# Altium footprint library BASIC Library.PCBLIB: 464 footprints (part 12 of 30)
Each footprint in its own frame and in the unit in brackets; x right, y up, seen from the top. Pads: shape width x height; smd on the part's side, far side on the other; paste and mask are expansions set on the pad; w line width, h text height; cw(c..) or ccw(c..) is an arc to the next point about the centre after c.
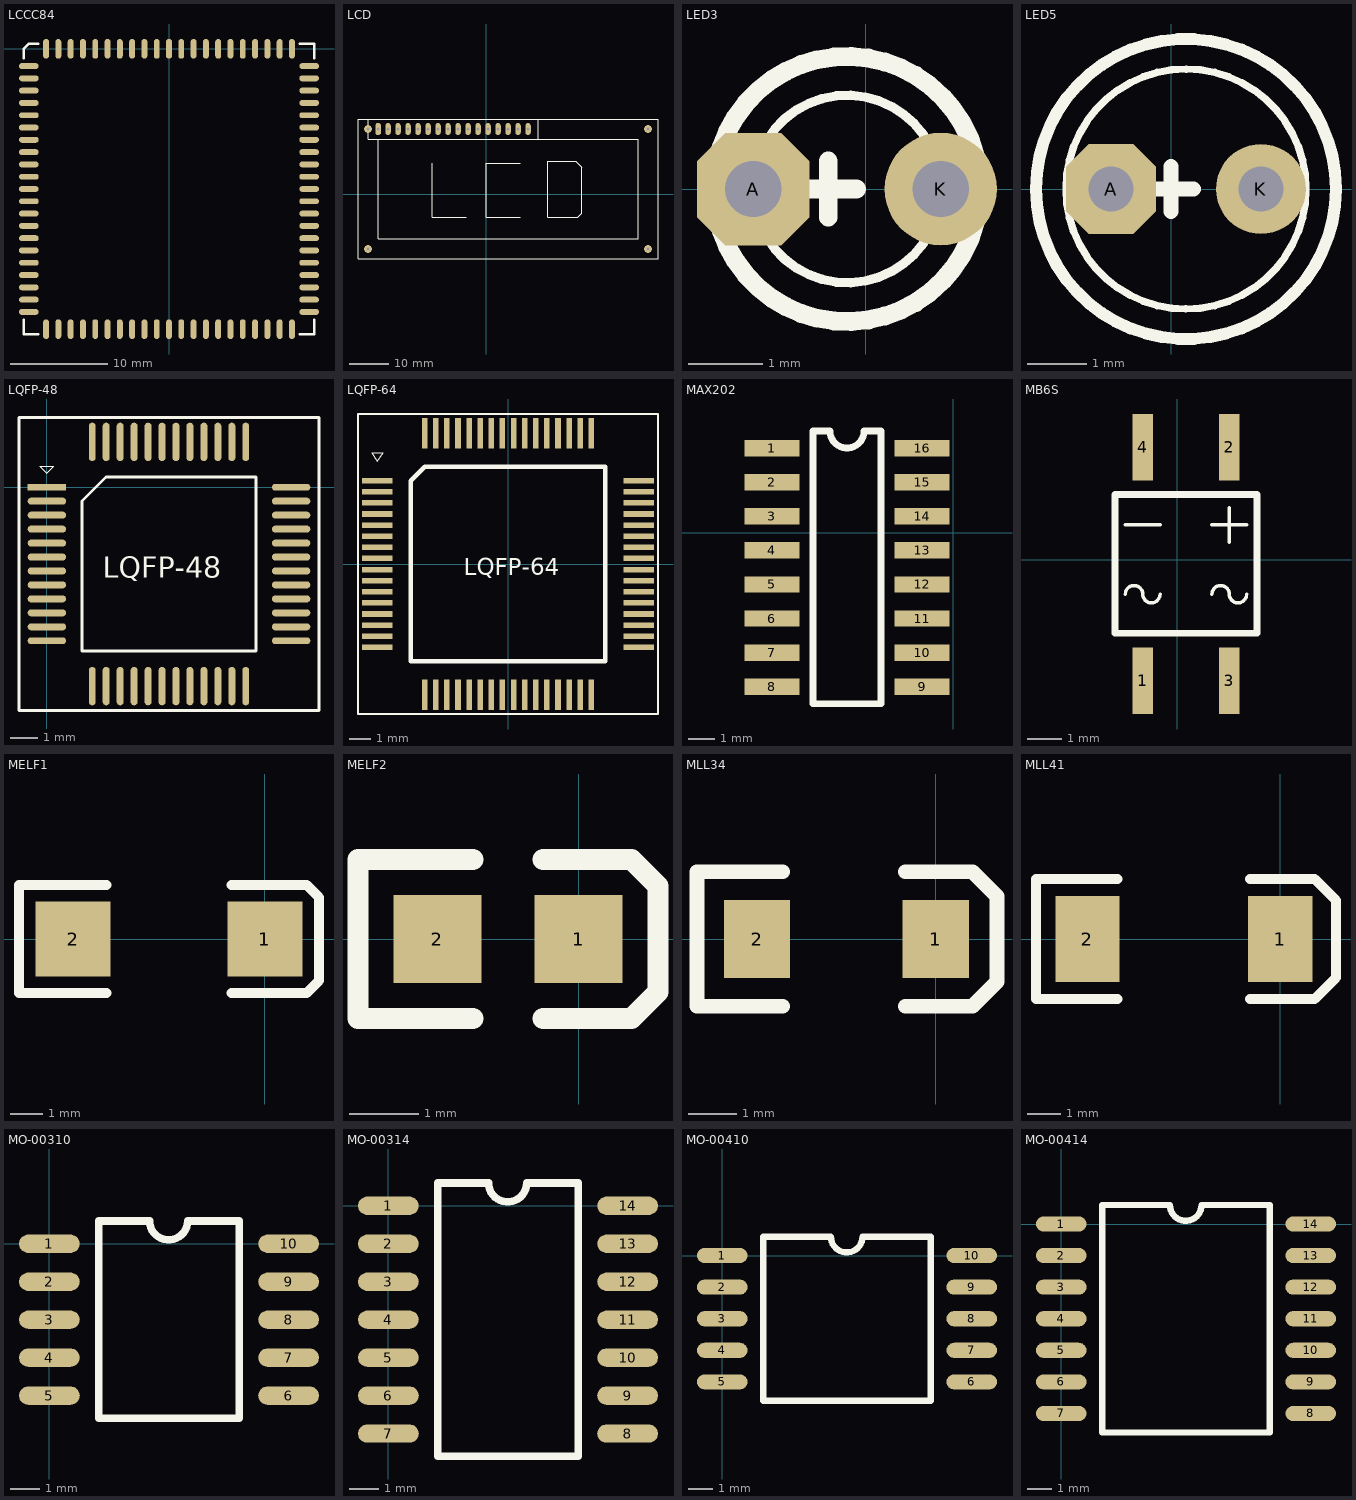
[diagram p11: the footprints below, top view; thin cyan lines are the x and y axes]

## LCCC84 [mil]
pads (84):
  oct 24x80 smd: 1(0,0)
  oval 24x80 smd: 2(-50,0) 3(-100,0) 4(-150,0) 5(-200,0) 6(-250,0) 7(-300,0) 8(-350,0) 9(-400,0) 10(-450,0) 11(-500,0) 33(-500,-1140) 34(-450,-1140) 35(-400,-1140) 36(-350,-1140) 37(-300,-1140) 38(-250,-1140) 39(-200,-1140) 40(-150,-1140) 41(-100,-1140) 42(-50,-1140) 43(0,-1140) 44(50,-1140) 45(100,-1140) 46(150,-1140) 47(200,-1140) 48(250,-1140) 49(300,-1140) 50(350,-1140) 51(400,-1140) 52(450,-1140) 53(500,-1140) 75(500,0) 76(450,0) 77(400,0) 78(350,0) 79(300,0) 80(250,0) 81(200,0) 82(150,0) 83(100,0) 84(50,0)
  oval 80x24 smd: 12(-570,-70) 13(-570,-120) 14(-570,-170) 15(-570,-220) 16(-570,-270) 17(-570,-320) 18(-570,-370) 19(-570,-420) 20(-570,-470) 21(-570,-520) 22(-570,-570) 23(-570,-620) 24(-570,-670) 25(-570,-720) 26(-570,-770) 27(-570,-820) 28(-570,-870) 29(-570,-920) 30(-570,-970) 31(-570,-1020) 32(-570,-1070) 54(570,-1070) 55(570,-1020) 56(570,-970) 57(570,-920) 58(570,-870) 59(570,-820) 60(570,-770) 61(570,-720) 62(570,-670) 63(570,-620) 64(570,-570) 65(570,-520) 66(570,-470) 67(570,-420) 68(570,-370) 69(570,-320) 70(570,-270) 71(570,-220) 72(570,-170) 73(570,-120) 74(570,-70)
TopOverlay:
  lines w10: -590,-1102 -590,-1160 -532,-1160 ; -590,-38 -590,1 -571,20 -532,20 ; 532,-1160 590,-1160 590,-1102 ; 532,20 590,20 590,-38

## LCD [mil]
pads (20):
  oct 55x120 hole 30: 1(-1080,650)
  oval 55x120 hole 30: 2(-980,650) 3(-880,650) 4(-780,650) 5(-680,650) 6(-580,650) 7(-480,650) 8(-380,650) 9(-280,650) 10(-180,650) 11(-80,650) 12(20,650) 13(120,650) 14(220,650) 15(320,650) 16(420,650)
  round 80 hole 30: 17(-1180,650) 18(1620,650) 19(1620,-550) 20(-1180,-550)
TopOverlay:
  lines w10: -1180,750 -1180,550 520,550 ; -1080,550 -1080,-350 -1080,-450 1420,-450 1520,-450 1520,-350 1520,550 1420,550 520,550 ; 520,750 520,550 ; -1280,-650 1720,-650 1720,750 420,750 -1280,750 -1280,650 -1280,-650
  lines w12: -540,310 -540,-230 -200,-230 ; 340,-230 320,-230 0,-230 0,310 340,310 ; 620,-230 620,310 620,330 900,330 960,270 960,-190 920,-230 620,-230

## LED3 [mil]
pads (2):
  oct 60x60 hole 30: A(-60,0)
  round 60 hole 30: K(40,0)
TopOverlay:
  circle w5: c-10,0 r50
  circle w10: c-10,0 r70.71
  lines w10: -35,0 -5,0 ; -20,-15 -20,15

## LED5 [mil]
pads (2):
  oct 60x60 hole 30: A(-40,0)
  round 60 hole 30: K(60,0)
TopOverlay:
  circle w8: c10,0 r100
  circle w5: c10,0 r80
  lines w10: -15,0 15,0 ; 0,-15 0,15

## LQFP-48 [mil]
pads (48):
  rect 55x10 smd: 1(0,0)
  oval 55x10 smd: 2(0,-20) 3(0,-40) 4(0,-60) 5(0,-80) 6(0,-100) 7(0,-120) 8(0,-140) 9(0,-160) 10(0,-180) 11(0,-200) 12(0,-220) 25(350,-220) 26(350,-200) 27(350,-180) 28(350,-160) 29(350,-140) 30(350,-120) 31(350,-100) 32(350,-80) 33(350,-60) 34(350,-40) 35(350,-20) 36(350,0)
  oval 10x55 smd: 13(65,-285) 14(85,-285) 15(105,-285) 16(125,-285) 17(145,-285) 18(165,-285) 19(185,-285) 20(205,-285) 21(225,-285) 22(245,-285) 23(265,-285) 24(285,-285) 37(285,65) 38(265,65) 39(245,65) 40(225,65) 41(205,65) 42(185,65) 43(165,65) 44(145,65) 45(125,65) 46(105,65) 47(85,65) 48(65,65)
TopOverlay:
  lines w1: -10,30 10,30 0,20 -10,30
  lines w4: -40,-320 390,-320 390,100 -40,100 -40,-320 ; 50.5,-234.5 299.5,-234.5 299.5,14.5 101,14.5 84.5,14.5 50.5,-19.5 50.5,-36 50.5,-234.5
  text "LQFP-48" at 80,-130 h30

## LQFP-64 [mil]
pads (64):
  rect 55x10 smd: 1(-235,150) 2(-235,130) 3(-235,110) 4(-235,90) 5(-235,70) 6(-235,50) 7(-235,30) 8(-235,10) 9(-235,-10) 10(-235,-30) 11(-235,-50) 12(-235,-70) 13(-235,-90) 14(-235,-110) 15(-235,-130) 16(-235,-150) 33(235,-150) 34(235,-130) 35(235,-110) 36(235,-90) 37(235,-70) 38(235,-50) 39(235,-30) 40(235,-10) 41(235,10) 42(235,30) 43(235,50) 44(235,70) 45(235,90) 46(235,110) 47(235,130) 48(235,150)
  rect 10x55 smd: 17(-150,-235) 18(-130,-235) 19(-110,-235) 20(-90,-235) 21(-70,-235) 22(-50,-235) 23(-30,-235) 24(-10,-235) 25(10,-235) 26(30,-235) 27(50,-235) 28(70,-235) 29(90,-235) 30(110,-235) 31(130,-235) 32(150,-235) 49(150,235) 50(130,235) 51(110,235) 52(90,235) 53(70,235) 54(50,235) 55(30,235) 56(10,235) 57(-10,235) 58(-30,235) 59(-50,235) 60(-70,235) 61(-90,235) 62(-110,235) 63(-130,235) 64(-150,235)
TopOverlay:
  lines w2: -245,200 -235,185 -225,200 -245,200
  lines w4: -270,-270 -270,270 270,270 270,-270 -270,-270
  lines w8: -175,-175 175,-175 175,175 -150,175 -175,150 -175,-175
  text "LQFP-64" at -80,-20 h30

## MAX202 [mil]
pads (16):
  rect 80x24 smd: 1(-266,124) 2(-266,74) 3(-266,24) 4(-266,-26) 5(-266,-76) 6(-266,-126) 7(-266,-176) 8(-266,-226) 9(-46,-226) 10(-46,-176) 11(-46,-126) 12(-46,-76) 13(-46,-26) 14(-46,24) 15(-46,74) 16(-46,124)
TopOverlay:
  lines w10: -206,-251 -206,149 -181,149 ccw(c-156,149) -131,149 -106,149 -106,-251 -206,-251

## MB6S [mm]
pads (4):
  rect 0.6x1.95 smd: 1(-1.016,-3.556) 2(1.524,3.294) 3(1.524,-3.556) 4(-1.016,3.294)
TopOverlay:
  lines w0.102: -1.524,-1.016 cw(c-1.27,-1.016) -1.016,-1.016 ccw(c-0.762,-1.016) -0.508,-1.016 ; -1.524,1.016 -0.508,1.016 ; 1.016,-1.016 cw(c1.27,-1.016) 1.524,-1.016 ccw(c1.778,-1.016) 2.032,-1.016 ; 1.016,1.016 2.032,1.016 ; 1.524,0.508 1.524,1.524
  lines w0.203: 2.333,-2.163 -1.829,-2.163 -1.829,1.905 2.337,1.905 2.337,-2.159

## MELF1 [mil]
pads (2):
  rect 90x90 smd: 1(0,0) 2(-230,0)
TopOverlay:
  lines w12: -190,-65 -295,-65 -295,65 -190,65 ; -40,-65 50,-65 65,-50 65,50 50,65 -40,65

## MELF2 [mil]
pads (2):
  rect 50x50 smd: 1(0,0) 2(-80,0)
TopOverlay:
  lines w12: -60,-45 -125,-45 -125,45 -60,45 ; -20,-45 30,-45 45,-30 45,30 30,45 -20,45

## MLL34 [mil]
pads (2):
  rect 54x64 smd: 1(0,0) 2(-146,0)
TopOverlay:
  lines w12: -125,-55 -195,-55 -195,55 -125,55 ; -25,-55 30,-55 50,-35 50,35 30,55 -25,55

## MLL41 [mil]
pads (2):
  rect 75x100 smd: 1(0,0) 2(-225,0)
TopOverlay:
  lines w12: -190,-70 -285,-70 -285,70 -190,70 ; -35,-70 40,-70 65,-45 65,45 40,70 -35,70

## MO-00310 [mil]
pads (10):
  oval 80x24 smd: 1(0,0) 2(0,-50) 3(0,-100) 4(0,-150) 5(0,-200) 6(315,-200) 7(315,-150) 8(315,-100) 9(315,-50) 10(315,0)
TopOverlay:
  lines w10: 65,-230 65,30 132,30 ccw(c157,30) 182,30 250,30 250,-230 65,-230

## MO-00314 [mil]
pads (14):
  oval 80x24 smd: 1(0,0) 2(0,-50) 3(0,-100) 4(0,-150) 5(0,-200) 6(0,-250) 7(0,-300) 8(315,-300) 9(315,-250) 10(315,-200) 11(315,-150) 12(315,-100) 13(315,-50) 14(315,0)
TopOverlay:
  lines w10: 65,-330 65,30 132,30 ccw(c157,30) 182,30 250,30 250,-330 65,-330

## MO-00410 [mil]
pads (10):
  oval 80x24 smd: 1(0,0) 2(0,-50) 3(0,-100) 4(0,-150) 5(0,-200) 6(395,-200) 7(395,-150) 8(395,-100) 9(395,-50) 10(395,0)
TopOverlay:
  lines w10: 65,-230 65,30 172,30 ccw(c197,30) 222,30 330,30 330,-230 65,-230

## MO-00414 [mil]
pads (14):
  oval 80x24 smd: 1(0,0) 2(0,-50) 3(0,-100) 4(0,-150) 5(0,-200) 6(0,-250) 7(0,-300) 8(395,-300) 9(395,-250) 10(395,-200) 11(395,-150) 12(395,-100) 13(395,-50) 14(395,0)
TopOverlay:
  lines w10: 65,-330 65,30 172,30 ccw(c197,30) 222,30 330,30 330,-330 65,-330